# EAGLE library part NRF24L01PALNA (library WarthogRobotics-Wireless)
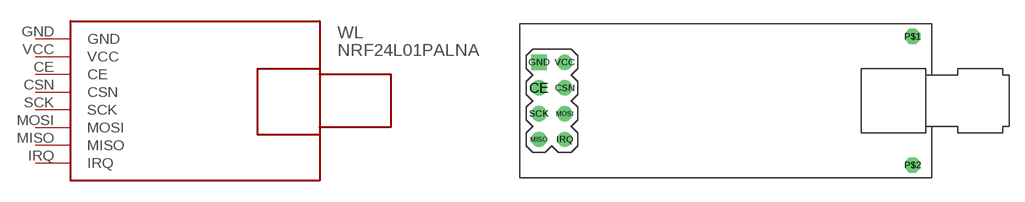
[diagram p0: symbol with the pads of WIRELESS-NRF24L01-PA-EXT; footprint WIRELESS-NRF24L01-PA-EXT]

Designator prefix WL

## NRF24L01PALNA  [WIRELESS-NRF24L01-PA-EXT]
CE  CE
CSN  CSN
GND  GND  pwr
IRQ  IRQ
MISO  MISO
MOSI  MOSI
SCK  SCK
VCC  VCC  pwr

## Footprint WIRELESS-NRF24L01-PA-EXT (pad centres in mm)
2.4 GHz Wireless Module based on NRF24L01 chip with preamplifier and external antenna
drill 1: CE -18.415,1.27; CSN -15.875,1.27; IRQ -15.875,-3.81; MISO -18.415,-3.81; MOSI -15.875,-1.27; SCK -18.415,-1.27; VCC -15.875,3.81
drill 1 square: GND -18.415,3.81
drill 1 octagon: P$1 18.415,6.35; P$2 18.415,-6.35